# Altium integrated library ON Semi Signal Management Audio Amplifiers.IntLib: 87 symbols (part 1 of 4)
Pins are listed as number, name and electrical type; pins without a type are passive.

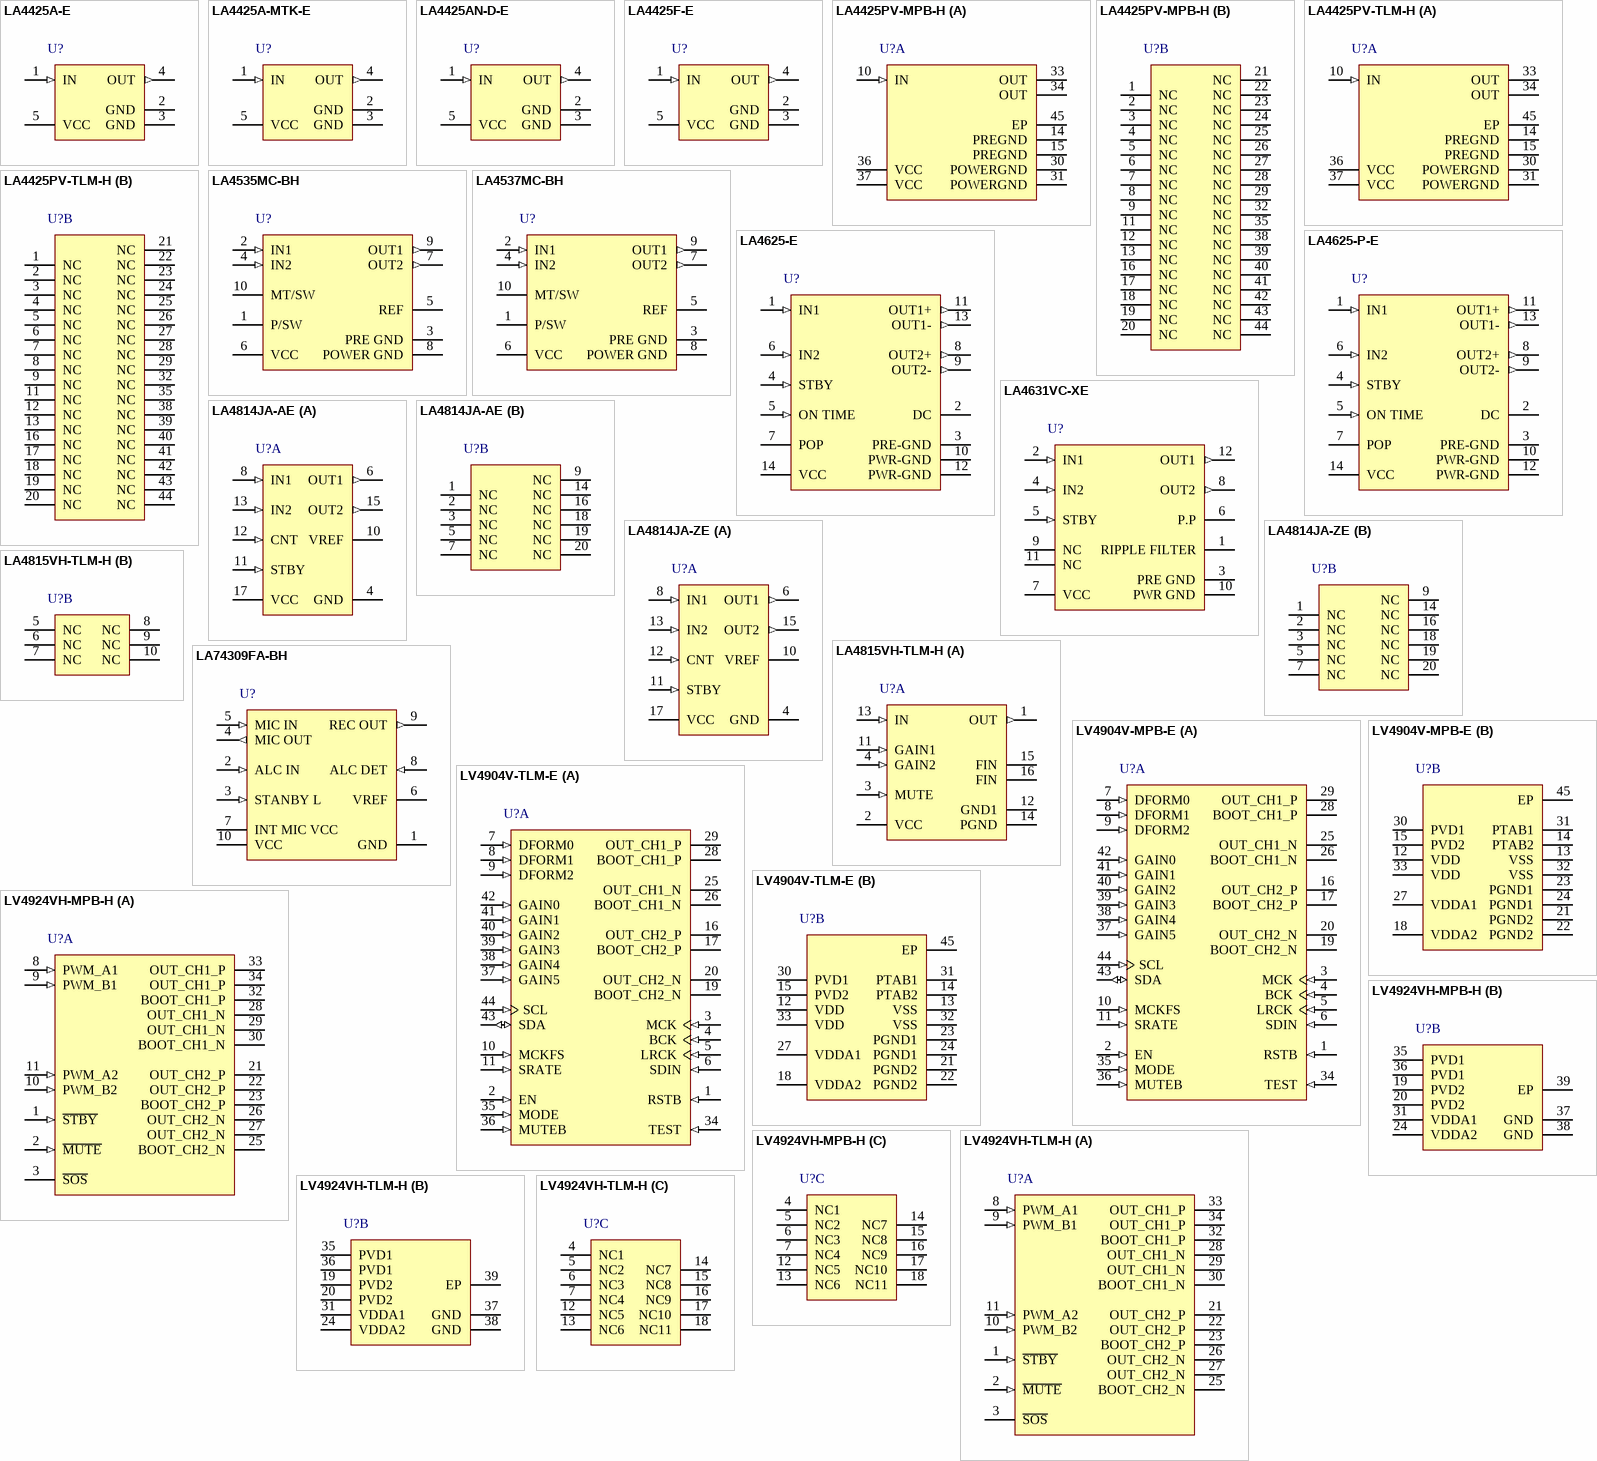
[diagram p0: symbols LA4425A-E to LV4924VH-TLM-H]

## LA4425A-E
designator U?
5 W Power Amplifier with Very Few External Parts for Car Radio and Car Stereo, -30 to 80 degC, 5-Pin SIP, Pb-Free, Bulk Bag; Manufacturer: On Semiconductor; PartNumber: LA4425A-E; DatasheetVersion: Rev. 0; PackageVersion: Rev. O, 12/2011; PackageReference: SIP-5-127AF; PackageDescription: 5-Pin Single-In Line Package, Body 9.5 x 2.7 mm, Pitch 2 mm; Supplier 1: Digi-Key; Supplier Part Number 1: LA4425A-EOS-ND; Supplier 2: Newark; Supplier Part Number 2: 07W6870; Supplier 3: Mouser; Supplier Part Number 3: 863-LA4425A-E; Packing: Bulk Bag; RoHS: TRUE; Mounting Technology: Through Hole; ComponentLink1Description: Manufacturer URL; ComponentLink1URL: http://www.onsemi.com/; ComponentLink2Description: Datasheet; ComponentLink2URL: http://www.onsemi.com/pub_link/Collateral/EN3309-D.PDF; ComponentLink3Description: Package Specification; ComponentLink3URL: http://www.onsemi.com/pub_link/Collateral/127AF.PDF
footprint ONSC-SIP-5-127AF (SIP, 5-Leads, Body 9.5x2.7mm, Pitch 2mm)
pins: 1 IN (in), 2 GND (power), 3 GND (power), 4 OUT (out), 5 VCC (power)

## LA4425A-MTK-E
designator U?
5 W Power Amplifier with Very Few External Parts for Car Radio and Car Stereo, -30 to 80 degC, 5-Pin SIP, Pb-Free, Bulk Bag; Manufacturer: On Semiconductor; PartNumber: LA4425A-MTK-E; DatasheetVersion: Rev. 0; PackageVersion: Rev. O, 12/2011; PackageReference: SIP-5-127AF; PackageDescription: 5-Pin Single-In Line Package, Body 9.5 x 2.7 mm, Pitch 2 mm; Supplier 1: Newark; Supplier Part Number 1: 45W2343; Supplier 2: Mouser; Supplier Part Number 2: 863-LA4425A-MTK-E; Packing: Bulk Bag; RoHS: TRUE; Mounting Technology: Through Hole; ComponentLink1Description: Manufacturer URL; ComponentLink1URL: http://www.onsemi.com/; ComponentLink2Description: Datasheet; ComponentLink2URL: http://www.onsemi.com/pub_link/Collateral/EN3309-D.PDF; ComponentLink3Description: Package Specification; ComponentLink3URL: http://www.onsemi.com/pub_link/Collateral/127AF.PDF
footprint ONSC-SIP-5-127AF (SIP, 5-Leads, Body 9.5x2.7mm, Pitch 2mm)
pins: 1 IN (in), 2 GND (power), 3 GND (power), 4 OUT (out), 5 VCC (power)

## LA4425AN-D-E
designator U?
5 W Power Amplifier with Very Few External Parts for Car Radio and Car Stereo, -30 to 80 degC, 5-Pin SIP, Pb-Free, Fan-Fold; Manufacturer: On Semiconductor; PartNumber: LA4425AN-D-E; DatasheetVersion: Rev. 0; PackageVersion: Rev. O, 12/2011; PackageReference: SIP-5-127AF; PackageDescription: 5-Pin Single-In Line Package, Body 9.5 x 2.7 mm, Pitch 2 mm; Supplier 1: Newark; Supplier Part Number 1: 45W2344; Supplier 2: Mouser; Supplier Part Number 2: 863-LA4425AN-D-E; Packing: Fan-Fold; RoHS: TRUE; Mounting Technology: Through Hole; ComponentLink1Description: Manufacturer URL; ComponentLink1URL: http://www.onsemi.com/; ComponentLink2Description: Datasheet; ComponentLink2URL: http://www.onsemi.com/pub_link/Collateral/EN3309-D.PDF; ComponentLink3Description: Package Specification; ComponentLink3URL: http://www.onsemi.com/pub_link/Collateral/127AF.PDF
footprint ONSC-SIP-5-127AF (SIP, 5-Leads, Body 9.5x2.7mm, Pitch 2mm)
pins: 1 IN (in), 2 GND (power), 3 GND (power), 4 OUT (out), 5 VCC (power)

## LA4425F-E
designator U?
5 W Power Amplifier with Very Few External Parts for Car Radio and Car Stereo, -30 to 80 degC, 5-Pin SIP, Pb-Free, Fan-Fold; Manufacturer: On Semiconductor; PartNumber: LA4425F-E; DatasheetVersion: Rev. 0; PackageVersion: Rev. O, 12/2011; PackageReference: SIP-5-127AF; PackageDescription: 5-Pin Single-In Line Package, Body 9.5 x 2.7 mm, Pitch 2 mm; Supplier 1: Newark; Supplier Part Number 1: 45W2345; Supplier 2: Mouser; Supplier Part Number 2: 863-LA4425F-E; Packing: Fan-Fold; RoHS: TRUE; Mounting Technology: Through Hole; ComponentLink1Description: Manufacturer URL; ComponentLink1URL: http://www.onsemi.com/; ComponentLink2Description: Datasheet; ComponentLink2URL: http://www.onsemi.com/pub_link/Collateral/EN3309-D.PDF; ComponentLink3Description: Package Specification; ComponentLink3URL: http://www.onsemi.com/pub_link/Collateral/127AF.PDF
footprint ONSC-SIP-5-127AF (SIP, 5-Leads, Body 9.5x2.7mm, Pitch 2mm)
pins: 1 IN (in), 2 GND (power), 3 GND (power), 4 OUT (out), 5 VCC (power)

## LA4425PV-MPB-H
designator U?
5 W Power Amplifier with Very Few External Parts for Car Radio and Car Stereo, -40 to 85 degC, 44-Pin SSOP44K, Pb-Free, Fan-Fold; Manufacturer: On Semiconductor; PartNumber: LA4425PV-MPB-H; DatasheetVersion: Rev. 0; PackageVersion: Rev. A, 11/2013; PackageReference: SSOP44K-44-940AF; PackageDescription: 44-Pin Small Outline Package, Body 15 x 5.6 mm, Pitch 0.65 mm; Supplier 1: Digi-Key; Supplier Part Number 1: LA4425PV-MPB-H-ND; Supplier 2: Mouser; Supplier Part Number 2: 863-LA4425PV-MPB-H; Packing: Fan-Fold; RoHS: TRUE; Mounting Technology: Surface Mount; ComponentLink1Description: Manufacturer URL; ComponentLink1URL: http://www.onsemi.com/; ComponentLink2Description: Datasheet; ComponentLink2URL: http://www.onsemi.com/pub_link/Collateral/ENA2011-D.PDF; ComponentLink3Description: Package Specification; ComponentLink3URL: http://www.onsemi.com/pub_link/Collateral/940AF.PDF
footprint ONSC-SSOP44K-44-940AF_V (SOP, 44-Leads, Body 15.1x5.7mm, Pitch 0.65mm, Thermal Pad 3.5x4.7mm)
part A pins: 10 IN (in), 14 PREGND (power), 15 PREGND (power), 30 POWERGND (power), 31 POWERGND (power), 33 OUT, 34 OUT, 36 VCC (power), 37 VCC (power), 45 EP (power)
part B pins: 1 NC, 2 NC, 3 NC, 4 NC, 5 NC, 6 NC, 7 NC, 8 NC, 9 NC, 11 NC, 12 NC, 13 NC, 16 NC, 17 NC, 18 NC, 19 NC, 20 NC, 21 NC, 22 NC, 23 NC, 24 NC, 25 NC, 26 NC, 27 NC, 28 NC, 29 NC, 32 NC, 35 NC, 38 NC, 39 NC, 40 NC, 41 NC, 42 NC, 43 NC, 44 NC

## LA4425PV-TLM-H
designator U?
5 W Power Amplifier with Very Few External Parts for Car Radio and Car Stereo, -40 to 85 degC, 44-Pin SSOP44K, Pb-Free, Tape and Reel; Manufacturer: On Semiconductor; PartNumber: LA4425PV-TLM-H; DatasheetVersion: Rev. 0; PackageVersion: Rev. A, 11/2013; PackageReference: SSOP44K-44-940AF; PackageDescription: 44-Pin Small Outline Package, Body 15 x 5.6 mm, Pitch 0.65 mm; Supplier 1: Digi-Key; Supplier Part Number 1: LA4425PV-TLM-H-ND; Supplier 2: Mouser; Supplier Part Number 2: 863-LA4425PV-TLM-H; Packing: Tape and Reel; RoHS: TRUE; Mounting Technology: Surface Mount; ComponentLink1Description: Manufacturer URL; ComponentLink1URL: http://www.onsemi.com/; ComponentLink2Description: Datasheet; ComponentLink2URL: http://www.onsemi.com/pub_link/Collateral/ENA2011-D.PDF; ComponentLink3Description: Package Specification; ComponentLink3URL: http://www.onsemi.com/pub_link/Collateral/940AF.PDF
footprint ONSC-SSOP44K-44-940AF_V (SOP, 44-Leads, Body 15.1x5.7mm, Pitch 0.65mm, Thermal Pad 3.5x4.7mm)
part A pins: 10 IN (in), 14 PREGND (power), 15 PREGND (power), 30 POWERGND (power), 31 POWERGND (power), 33 OUT, 34 OUT, 36 VCC (power), 37 VCC (power), 45 EP (power)
part B pins: 1 NC, 2 NC, 3 NC, 4 NC, 5 NC, 6 NC, 7 NC, 8 NC, 9 NC, 11 NC, 12 NC, 13 NC, 16 NC, 17 NC, 18 NC, 19 NC, 20 NC, 21 NC, 22 NC, 23 NC, 24 NC, 25 NC, 26 NC, 27 NC, 28 NC, 29 NC, 32 NC, 35 NC, 38 NC, 39 NC, 40 NC, 41 NC, 42 NC, 43 NC, 44 NC

## LA4535MC-BH
designator U?
Power Amplifier for 1.5 V Headphone Stereo, -20 to 75 degC, 10-Pin SOIC, Pb-Free, Tape and Reel; Manufacturer: On Semiconductor; PartNumber: LA4535MC-BH; DatasheetVersion: Rev. 1; PackageReference: SOIC-10-3426; PackageDescription: 10-Pin Small Outline Package, Body 5 x 4.4 mm, Pitch 1 mm; Supplier 1: Digi-Key; Supplier Part Number 1: LA4535MC-BH-ND; Supplier 2: Mouser; Supplier Part Number 2: 863-LA4535MC-BH; Packing: Tape and Reel; RoHS: TRUE; Mounting Technology: Surface Mount; ComponentLink1Description: Manufacturer URL; ComponentLink1URL: http://www.onsemi.com/; ComponentLink2Description: Datasheet; ComponentLink2URL: http://www.onsemi.com/pub_link/Collateral/ENA2032-D.PDF; ComponentLink3Description: Package Specification; ComponentLink3URL: http://www.onsemi.com/pub_link/Collateral/ENA2032-D.PDF
footprint ONSC-SOIC-10-3426_N (SOP, 10-Leads, Body 5x4.4mm, Pitch 1mm, IPC Medium Density)
footprint ONSC-SOIC-10-3426_L (SOP, 10-Leads, Body 5x4.4mm, Pitch 1mm, IPC High Density)
footprint ONSC-SOIC-10-3426_M (SOP, 10-Leads, Body 5x4.4mm, Pitch 1mm, IPC Low Density)
pins: 1 P/SW, 2 IN1 (in), 3 PRE GND (power), 4 IN2 (in), 5 REF, 6 VCC (power), 7 OUT2 (out), 8 POWER GND (power), 9 OUT1 (out), 10 MT/SW

## LA4537MC-BH
designator U?
Power Amplifier for 1.5 V Headphone Stereo, -20 to 75 degC, 10-Pin SOIC, Pb-Free, Tape and Reel; Manufacturer: On Semiconductor; PartNumber: LA4537MC-BH; DatasheetVersion: Rev. 1; PackageReference: SOIC-10-3426; PackageDescription: 10-Pin Small Outline Package, Body 5 x 4.4 mm, Pitch 1 mm; Supplier 1: Digi-Key; Supplier Part Number 1: LA4537MC-BH-ND; Supplier 2: Newark; Supplier Part Number 2: 52T7889; Supplier 3: Mouser; Supplier Part Number 3: 863-LA4537MC-BH; Packing: Tape and Reel; RoHS: TRUE; Mounting Technology: Surface Mount; ComponentLink1Description: Manufacturer URL; ComponentLink1URL: http://www.onsemi.com/; ComponentLink2Description: Datasheet; ComponentLink2URL: http://www.onsemi.com/pub_link/Collateral/ENA2033-D.PDF; ComponentLink3Description: Package Specification; ComponentLink3URL: http://www.onsemi.com/pub_link/Collateral/ENA2032-D.PDF
footprint ONSC-SOIC-10-3426_N (SOP, 10-Leads, Body 5x4.4mm, Pitch 1mm, IPC Medium Density)
footprint ONSC-SOIC-10-3426_L (SOP, 10-Leads, Body 5x4.4mm, Pitch 1mm, IPC High Density)
footprint ONSC-SOIC-10-3426_M (SOP, 10-Leads, Body 5x4.4mm, Pitch 1mm, IPC Low Density)
pins: 1 P/SW, 2 IN1 (in), 3 PRE GND (power), 4 IN2 (in), 5 REF, 6 VCC (power), 7 OUT2 (out), 8 POWER GND (power), 9 OUT1 (out), 10 MT/SW

## LA4625-E
designator U?
2-Channel 13.5 W BTL Audio Power Amplifier, -20 to 85 degC, 14-Pin SIP, Pb-Free, Fan-Fold; Manufacturer: On Semiconductor; PartNumber: LA4625-E; DatasheetVersion: Rev. 0; PackageVersion: Rev. A, 10/2013; PackageReference: SIP-14-127AR; PackageDescription: 14-Pin Single-In Line Package, Body 26.8 x 4 mm, Pitch 1.78 mm; Supplier 1: Digi-Key; Supplier Part Number 1: LA4625-E-ND; Supplier 2: Newark; Supplier Part Number 2: 52T7890; Supplier 3: Mouser; Supplier Part Number 3: 863-LA4625-E; Packing: Fan-Fold; RoHS: TRUE; Mounting Technology: Through Hole; ComponentLink1Description: Manufacturer URL; ComponentLink1URL: http://www.onsemi.com/; ComponentLink2Description: Datasheet; ComponentLink2URL: http://www.onsemi.cn/pub_link/Collateral/LA4625-D.PDF; ComponentLink3Description: Package Specification; ComponentLink3URL: http://www.onsemi.com/pub_link/Collateral/127AR.PDF
footprint ONSC-SIP-14-127AR (SIP, 14-Leads, Body 26.8x4mm, Pitch 1.78mm)
pins: 1 IN1 (in), 2 DC, 3 PRE-GND (power), 4 STBY (in), 5 ON TIME (in), 6 IN2 (in), 7 POP, 8 OUT2+ (out), 9 OUT2- (out), 10 PWR-GND (power), 11 OUT1+ (out), 12 PWR-GND (power), 13 OUT1- (out), 14 VCC (power)

## LA4625-P-E
designator U?
2-Channel 13.5 W BTL Audio Power Amplifier, -20 to 85 degC, 14-Pin SIP, Pb-Free, Fan-Fold; Manufacturer: On Semiconductor; PartNumber: LA4625-P-E; DatasheetVersion: Rev. 0; PackageVersion: Rev. A, 10/2013; PackageReference: SIP-14-127AR; PackageDescription: 14-Pin Single-In Line Package, Body 26.8 x 4 mm, Pitch 1.78 mm; Supplier 1: Newark; Supplier Part Number 1: 45W2356; Supplier 2: Mouser; Supplier Part Number 2: 863-LA4625-P-E; Packing: Fan-Fold; RoHS: TRUE; Mounting Technology: Through Hole; ComponentLink1Description: Manufacturer URL; ComponentLink1URL: http://www.onsemi.com/; ComponentLink2Description: Datasheet; ComponentLink2URL: http://www.onsemi.cn/pub_link/Collateral/LA4625-D.PDF; ComponentLink3Description: Package Specification; ComponentLink3URL: http://www.onsemi.com/pub_link/Collateral/127AR.PDF
footprint ONSC-SIP-14-127AR (SIP, 14-Leads, Body 26.8x4mm, Pitch 1.78mm)
pins: 1 IN1 (in), 2 DC, 3 PRE-GND (power), 4 STBY (in), 5 ON TIME (in), 6 IN2 (in), 7 POP, 8 OUT2+ (out), 9 OUT2- (out), 10 PWR-GND (power), 11 OUT1+ (out), 12 PWR-GND (power), 13 OUT1- (out), 14 VCC (power)

## LA4631VC-XE
designator U?
2-Channel SE AF Power Amplifier for Home Audio Use , -20 to 75 degC, 12-Pin SIP, Pb-Free, Fan-Fold; Manufacturer: On Semiconductor; PartNumber: LA4631VC-XE; DatasheetVersion: Rev. 0; PackageVersion: Rev. O, 12/2011; PackageReference: SIP-12-127AM; PackageDescription: 12-Pin Single-In Line Package, Body 26.8 x 4 mm, Pitch 2 mm; Supplier 1: Newark; Supplier Part Number 1: 45W2362; Supplier 2: Mouser; Supplier Part Number 2: 863-LA4631VC-XE; Packing: Fan-Fold; RoHS: TRUE; Mounting Technology: Through Hole; ComponentLink1Description: Manufacturer URL; ComponentLink1URL: http://www.onsemi.com/; ComponentLink2Description: Datasheet; ComponentLink2URL: http://www.onsemi.cn/pub_link/Collateral/ENA2051-D.PDF; ComponentLink3Description: Package Specification; ComponentLink3URL: http://www.onsemi.cn/pub_link/Collateral/127AM.PDF
footprint ONSC-SIP-12-127AM (SIP, 12-Leads, Body 26.8x4mm, Pitch 2mm)
pins: 1 RIPPLE FILTER, 2 IN1 (in), 3 PRE GND (power), 4 IN2 (in), 5 STBY (in), 6 P.P, 7 VCC (power), 8 OUT2 (out), 9 NC, 10 PWR GND (power), 11 NC, 12 OUT1 (out)

## LA4814JA-AE
designator U?
2-Channel Power Amplifier, -40 to 85 degC, 20-Pin SSOP, Pb-Free, Tape and Reel; Manufacturer: On Semiconductor; PartNumber: LA4814JA-AE; DatasheetVersion: Rev. 0; PackageReference: SSOP-20; PackageDescription: 20-Pin Small Outline Package, Body 6.5 x 4.4 mm, Pitch 0.65 mm; Supplier 1: Mouser; Supplier Part Number 1: 863-LA4814JA-AE; Packing: Tape and Reel; RoHS: TRUE; Mounting Technology: Surface Mount; ComponentLink1Description: Manufacturer URL; ComponentLink1URL: http://www.onsemi.com/; ComponentLink2Description: Datasheet; ComponentLink2URL: http://www.onsemi.cn/pub_link/Collateral/ENA2040-D.PDF; ComponentLink3Description: Package Specification; ComponentLink3URL: http://www.onsemi.cn/pub_link/Collateral/ENA2040-D.PDF
footprint ONSC-SSOP-20_N (SOP, 20-Leads, Body 6.5x4.4mm, Pitch 0.65mm, IPC Medium Density)
footprint ONSC-SSOP-20_L (SOP, 20-Leads, Body 6.5x4.4mm, Pitch 0.65mm, IPC High Density)
footprint ONSC-SSOP-20_M (SOP, 20-Leads, Body 6.5x4.4mm, Pitch 0.65mm, IPC Low Density)
part A pins: 4 GND (power) "Ground pin", 6 OUT1 (out) "Power amplifier output pin.", 8 IN1 (in) "Input pin.", 10 VREF "Ripple filter pin", 11 STBY (in) "Standby pin,Standby mode at 0V to 0.3V,Operation mode at 1.6V to VCC", 12 CNT (in) "Second amplifier stop control pin,Second amplifier operation at 0V to 0.3V, Second amplifier stop at 1.6V to VCC.", 13 IN2 (in) "Input pin.", 15 OUT2 (out) "Power amplifier output pin.", 17 VCC (power) "Power supply pin"
part B pins: 1 NC "No Connect", 2 NC "No Connect", 3 NC "No Connect", 5 NC "No Connect", 7 NC "No Connect", 9 NC "No Connect", 14 NC "No Connect", 16 NC "No Connect", 18 NC "No Connect", 19 NC "No Connect", 20 NC "No Connect"

## LA4814JA-ZE
designator U?
2-Channel Power Amplifier, -40 to 85 degC, 20-Pin SSOP, Pb-Free, Fan-Fold; Manufacturer: On Semiconductor; PartNumber: LA4814JA-ZE; DatasheetVersion: Rev. 0; PackageReference: SSOP-20; PackageDescription: 20-Pin Small Outline Package, Body 6.5 x 4.4 mm, Pitch 0.65 mm; Supplier 1: Mouser; Supplier Part Number 1: 863-LA4814JA-ZE; Packing: Fan-Fold; RoHS: TRUE; Mounting Technology: Surface Mount; ComponentLink1Description: Manufacturer URL; ComponentLink1URL: http://www.onsemi.com/; ComponentLink2Description: Datasheet; ComponentLink2URL: http://www.onsemi.cn/pub_link/Collateral/ENA2040-D.PDF; ComponentLink3Description: Package Specification; ComponentLink3URL: http://www.onsemi.cn/pub_link/Collateral/ENA2040-D.PDF
footprint ONSC-SSOP-20_N (SOP, 20-Leads, Body 6.5x4.4mm, Pitch 0.65mm, IPC Medium Density)
footprint ONSC-SSOP-20_L (SOP, 20-Leads, Body 6.5x4.4mm, Pitch 0.65mm, IPC High Density)
footprint ONSC-SSOP-20_M (SOP, 20-Leads, Body 6.5x4.4mm, Pitch 0.65mm, IPC Low Density)
part A pins: 4 GND (power) "Ground pin", 6 OUT1 (out) "Power amplifier output pin.", 8 IN1 (in) "Input pin.", 10 VREF "Ripple filter pin", 11 STBY (in) "Standby pin,Standby mode at 0V to 0.3V,Operation mode at 1.6V to VCC", 12 CNT (in) "Second amplifier stop control pin,Second amplifier operation at 0V to 0.3V, Second amplifier stop at 1.6V to VCC.", 13 IN2 (in) "Input pin.", 15 OUT2 (out) "Power amplifier output pin.", 17 VCC (power) "Power supply pin"
part B pins: 1 NC "No Connect", 2 NC "No Connect", 3 NC "No Connect", 5 NC "No Connect", 7 NC "No Connect", 9 NC "No Connect", 14 NC "No Connect", 16 NC "No Connect", 18 NC "No Connect", 19 NC "No Connect", 20 NC "No Connect"

## LA4815VH-TLM-H
designator U?
Monaural Power Amplifier, -30 to 75 degC, 14-Pin HSSOP, Pb-Free, Tape and Reel; Manufacturer: On Semiconductor; PartNumber: LA4815VH-TLM-H; DatasheetVersion: Rev. 1; PackageReference: HSSOP-14; PackageDescription: 14-Pin Small Outline Package, Body 6.5 x 4.4 mm, Pitch 0.65 mm; Supplier 1: Digi-Key; Supplier Part Number 1: LA4815VH-TLM-H-ND; Supplier 2: Mouser; Supplier Part Number 2: 863-LA4815VH-TLM-H; Packing: Tape and Reel; RoHS: TRUE; Mounting Technology: Surface Mount; ComponentLink1Description: Manufacturer URL; ComponentLink1URL: http://www.onsemi.com/; ComponentLink2Description: Datasheet; ComponentLink2URL: http://www.onsemi.cn/pub_link/Collateral/LA4815VH-D.PDF; ComponentLink3Description: Package Specification; ComponentLink3URL: http://www.onsemi.cn/pub_link/Collateral/LA4815VH-D.PDF
footprint ONSC-HSSOP-14_N (SOP, 14-Leads, Body 6.5x4.4mm, Pitch 0.65mm, IPC Medium Density)
footprint ONSC-HSSOP-14_L (SOP, 14-Leads, Body 6.5x4.4mm, Pitch 0.65mm, IPC High Density)
footprint ONSC-HSSOP-14_M (SOP, 14-Leads, Body 6.5x4.4mm, Pitch 0.65mm, IPC Low Density)
part A pins: 1 OUT (out) "Power amplifier output pin.", 2 VCC (power) "Power supply pin.", 3 MUTE (in) "Mute control pin.", 4 GAIN2 (in) "Gain switching pin.", 11 GAIN1 (in) "Gain switching pin.", 12 GND1 (power) "Preamplifier system ground pin.", 13 IN (in) "Input pin.", 14 PGND (power) "Power amplifier ground pin.", 15 FIN (power), 16 FIN (power)
part B pins: 5 NC, 6 NC, 7 NC, 8 NC, 9 NC, 10 NC

## LA74309FA-BH
designator U?
Microphone Amplifier for Digital Still Camera, -20 to 85 degC, 10-Pin MICRO, Pb-Free, Tape and Reel; Manufacturer: On Semiconductor; PartNumber: LA74309FA-BH; DatasheetVersion: Rev. 0; PackageReference: MICRO-10; PackageDescription: 10-Pin Micro Small Outline Package, Body 3 x 3 mm, Pitch 0.5 mm; Supplier 1: Mouser; Supplier Part Number 1: 863-LA74309FA-BH; Packing: Tape and Reel; RoHS: TRUE; Mounting Technology: Surface Mount; ComponentLink1Description: Manufacturer URL; ComponentLink1URL: http://www.onsemi.com/; ComponentLink2Description: Datasheet; ComponentLink2URL: http://www.onsemi.cn/pub_link/Collateral/ENA2050-D.PDF; ComponentLink3Description: Package Specification; ComponentLink3URL: http://www.onsemi.cn/pub_link/Collateral/ENA2050-D.PDF
footprint ONSC-MICRO-10_N (SOP, 10-Leads, Body 3x3mm, Pitch 0.5mm, IPC Medium Density)
footprint ONSC-MICRO-10_L (SOP, 10-Leads, Body 3x3mm, Pitch 0.5mm, IPC High Density)
footprint ONSC-MICRO-10_M (SOP, 10-Leads, Body 3x3mm, Pitch 0.5mm, IPC Low Density)
pins: 1 GND (power), 2 ALC IN (in) "ALC input", 3 STANBY L (in) "STANDBY CTL", 4 MIC OUT (out) "MIC output", 5 MIC IN (in) "MIC input", 6 VREF "Ripple removal for VREF", 7 INT MIC VCC (power) "Internal MIC power supply", 8 ALC DET (in), 9 REC OUT (out) "REC output", 10 VCC (power)

## LV4904V-MPB-E
designator U?
Digital Input Class-D Power Amplifier, -30 to 70 degC, 44-Pin SSOP44J, Pb-Free, Fan-Fold; Manufacturer: On Semiconductor; PartNumber: LV4904V-MPB-E; Efficiency Typ (%): 85; DatasheetVersion: Rev. 0; PackageReference: SSOP44J-44; PackageDescription: 44-Pin Small Outline Package, Body 15 x 5.6 mm, Pitch 0.65 mm; Supplier 1: Newark; Supplier Part Number 1: 45W3284; Supplier 2: Mouser; Supplier Part Number 2: 863-LV4904V-MPB-E; Packing: Fan-Fold; RoHS: TRUE; Mounting Technology: Surface Mount; ComponentLink1Description: Manufacturer URL; ComponentLink1URL: http://www.onsemi.com/; ComponentLink2Description: Datasheet; ComponentLink2URL: http://www.onsemi.com/pub_link/Collateral/ENA1963-D.PDF; ComponentLink3Description: Package Specification; ComponentLink3URL: http://www.onsemi.com/pub_link/Collateral/ENA1963-D.PDF
footprint ONSC-SSOP44J-44_N (SOP, 44-Leads, Body 15x5.6mm, Pitch 0.65mm, Thermal Pad 7.8x3.6mm, IPC Medium Density)
footprint ONSC-SSOP44J-44_L (SOP, 44-Leads, Body 15x5.6mm, Pitch 0.65mm, Thermal Pad 7.8x3.6mm, IPC High Density)
footprint ONSC-SSOP44J-44_M (SOP, 44-Leads, Body 15x5.6mm, Pitch 0.65mm, Thermal Pad 7.8x3.6mm, IPC Low Density)
part A pins: 1 RSTB (in) "Reset input (low active)", 2 EN (in) "System enable input", 3 MCK (in) "Master clock input", 4 BCK (in) "3-wire serial bit clock input", 5 LRCK (in) "3-wire serial LR clock input", 6 SDIN (in) "3-wire serial data input", 7 DFORM0 (in) "Input format setting input 0", 8 DFORM1 (in) "Input format setting input 1", 9 DFORM2 (in) "Input format setting input 2", 10 MCKFS (in) "Master clock (MCK) rate setting pin", 11 SRATE (in) "Input data sampling rate setting pin", 16 OUT_CH2_P (hiz) "Output pin, channel 2 (Rch) +", 17 BOOT_CH2_P "Bootstrap I/O pin, channel 2 (Rch) +", 19 BOOT_CH2_N "Bootstrap I/O pin, channel 2 (Rch) -", 20 OUT_CH2_N (hiz) "Output pin, channel 2 negative", 25 OUT_CH1_N (hiz) "Output pin, channel 1 (Lch) -", 26 BOOT_CH1_N "Bootstrap I/O pin, channel 1 (Lch) -", 28 BOOT_CH1_P "Bootstrap I/O pin, channel 1 (Lch) +", 29 OUT_CH1_P (hiz) "Output pin, channel 1 (Lch) +", 34 TEST (in) "Test mode setting pin (fixed at a low level)", 35 MODE (in) "Output mode setting pin", 36 MUTEB (in) "Mute setting input (low active)", 37 GAIN5 (in) "Gain setting input 5", 38 GAIN4 (in) "Gain setting input 4", 39 GAIN3 (in) "Gain setting input 3", 40 GAIN2 (in) "Gain setting input 2", 41 GAIN1 (in) "Gain setting input 1", 42 GAIN0 (in) "Gain setting input 0", 43 SDA (io) "[I2C I/F] data", 44 SCL (in) "[I2C I/F] bit clock"
part B pins: 12 VDD (power) "Digital power supply (3.3V)", 13 VSS (power) "Small-signal ground (GND)", 14 PTAB2 (power) "Substrate ground", 15 PVD2 (power) "Power cell power supply", 18 VDDA2 (power) "De-coupling capacitor connection pin for internal power supply", 21 PGND2 (power) "Channel 2 power ground", 22 PGND2 (power) "Channel 2 power ground", 23 PGND1 (power) "Channel 1 power ground", 24 PGND1 (power) "Channel 1 power ground", 27 VDDA1 (power) "De-coupling capacitor connection pin for internal power supply", 30 PVD1 (power) "Power cell power supply", 31 PTAB1 (power) "Substrate ground", 32 VSS (power) "Small-signal ground (GND)", 33 VDD (power) "Digital power supply (3.3V)", 45 EP

## LV4904V-TLM-E
designator U?
Digital Input Class-D Power Amplifier, -30 to 70 degC, 44-Pin SSOP44J, Pb-Free, Tape and Reel; Manufacturer: On Semiconductor; PartNumber: LV4904V-TLM-E; Efficiency Typ (%): 85; DatasheetVersion: Rev. 0; PackageReference: SSOP44J-44; PackageDescription: 44-Pin Small Outline Package, Body 15 x 5.6 mm, Pitch 0.65 mm; Supplier 1: Digi-Key; Supplier Part Number 1: LV4904V-TLM-E-ND; Supplier 2: Mouser; Supplier Part Number 2: 863-LV4904V-TLM-E; Packing: Tape and Reel; RoHS: TRUE; Mounting Technology: Surface Mount; ComponentLink1Description: Manufacturer URL; ComponentLink1URL: http://www.onsemi.com/; ComponentLink2Description: Datasheet; ComponentLink2URL: http://www.onsemi.com/pub_link/Collateral/ENA1963-D.PDF; ComponentLink3Description: Package Specification; ComponentLink3URL: http://www.onsemi.com/pub_link/Collateral/ENA1963-D.PDF
footprint ONSC-SSOP44J-44_N (SOP, 44-Leads, Body 15x5.6mm, Pitch 0.65mm, Thermal Pad 7.8x3.6mm, IPC Medium Density)
footprint ONSC-SSOP44J-44_L (SOP, 44-Leads, Body 15x5.6mm, Pitch 0.65mm, Thermal Pad 7.8x3.6mm, IPC High Density)
footprint ONSC-SSOP44J-44_M (SOP, 44-Leads, Body 15x5.6mm, Pitch 0.65mm, Thermal Pad 7.8x3.6mm, IPC Low Density)
part A pins: 1 RSTB (in) "Reset input (low active)", 2 EN (in) "System enable input", 3 MCK (in) "Master clock input", 4 BCK (in) "3-wire serial bit clock input", 5 LRCK (in) "3-wire serial LR clock input", 6 SDIN (in) "3-wire serial data input", 7 DFORM0 (in) "Input format setting input 0", 8 DFORM1 (in) "Input format setting input 1", 9 DFORM2 (in) "Input format setting input 2", 10 MCKFS (in) "Master clock (MCK) rate setting pin", 11 SRATE (in) "Input data sampling rate setting pin", 16 OUT_CH2_P (hiz) "Output pin, channel 2 (Rch) +", 17 BOOT_CH2_P "Bootstrap I/O pin, channel 2 (Rch) +", 19 BOOT_CH2_N "Bootstrap I/O pin, channel 2 (Rch) -", 20 OUT_CH2_N (hiz) "Output pin, channel 2 negative", 25 OUT_CH1_N (hiz) "Output pin, channel 1 (Lch) -", 26 BOOT_CH1_N "Bootstrap I/O pin, channel 1 (Lch) -", 28 BOOT_CH1_P "Bootstrap I/O pin, channel 1 (Lch) +", 29 OUT_CH1_P (hiz) "Output pin, channel 1 (Lch) +", 34 TEST (in) "Test mode setting pin (fixed at a low level)", 35 MODE (in) "Output mode setting pin", 36 MUTEB (in) "Mute setting input (low active)", 37 GAIN5 (in) "Gain setting input 5", 38 GAIN4 (in) "Gain setting input 4", 39 GAIN3 (in) "Gain setting input 3", 40 GAIN2 (in) "Gain setting input 2", 41 GAIN1 (in) "Gain setting input 1", 42 GAIN0 (in) "Gain setting input 0", 43 SDA (io) "[I2C I/F] data", 44 SCL (in) "[I2C I/F] bit clock"
part B pins: 12 VDD (power) "Digital power supply (3.3V)", 13 VSS (power) "Small-signal ground (GND)", 14 PTAB2 (power) "Substrate ground", 15 PVD2 (power) "Power cell power supply", 18 VDDA2 (power) "De-coupling capacitor connection pin for internal power supply", 21 PGND2 (power) "Channel 2 power ground", 22 PGND2 (power) "Channel 2 power ground", 23 PGND1 (power) "Channel 1 power ground", 24 PGND1 (power) "Channel 1 power ground", 27 VDDA1 (power) "De-coupling capacitor connection pin for internal power supply", 30 PVD1 (power) "Power cell power supply", 31 PTAB1 (power) "Substrate ground", 32 VSS (power) "Small-signal ground (GND)", 33 VDD (power) "Digital power supply (3.3V)", 45 EP

## LV4924VH-MPB-H
designator U?
Class-D Audio Power Amplifier Power Cell BTL 10 W x 2 ch, -25 to 75 degC, 36-Pin HSSOP, Pb-Free, Fan-Fold; Manufacturer: On Semiconductor; PartNumber: LV4924VH-MPB-H; Efficiency Typ (%): 89; DatasheetVersion: Rev. 0; PackageReference: HSSOP-36; PackageDescription: 36-Pin Small Outline Package, Body 15 x 5.6 mm, Pitch 0.65 mm; Supplier 1: Digi-Key; Supplier Part Number 1: LV4924VH-MPB-H-ND; Supplier 2: Mouser; Supplier Part Number 2: 863-LV4924VH-MPB-H; Packing: Fan-Fold; RoHS: TRUE; Mounting Technology: Surface Mount; ComponentLink1Description: Manufacturer URL; ComponentLink1URL: http://www.onsemi.com/; ComponentLink2Description: Datasheet; ComponentLink2URL: http://www.onsemi.com/pub_link/Collateral/ENA1997-D.PDF; ComponentLink3Description: Package Specification; ComponentLink3URL: http://www.onsemi.com/pub_link/Collateral/ENA1997-D.PDF
footprint ONSC-HSSOP-36_N (SOP, 36-Leads, Body 15x5.6mm, Pitch 0.65mm, IPC Medium Density)
footprint ONSC-HSSOP-36_L (SOP, 36-Leads, Body 15x5.6mm, Pitch 0.65mm, IPC High Density)
footprint ONSC-HSSOP-36_M (SOP, 36-Leads, Body 15x5.6mm, Pitch 0.65mm, IPC Low Density)
part A pins: 1 ~{STBY} (in) "Standby mode control", 2 ~{MUTE} (in) "Muting control", 3 ~{SOS} (oc) "Internal protection circuit detection output (OR output of the thermak detection, over-current, voltage drop protection, offset detection cicrcuit) of an NPN open collector output type", 8 PWM_A1 (in) "PWM input(plus input) of OUT_CH1_P", 9 PWM_B1 (in) "PWM input(negative input) of OUT_CH1_N", 10 PWM_B2 (in) "PWM input(negative input) of OUT_CH2_N", 11 PWM_A2 (in) "PWM input(plus input) of OUT_CH2_P", 21 OUT_CH2_P (hiz) "Output pin, Channel 2 plus", 22 OUT_CH2_P (hiz) "Output pin, Channel 2 plus", 23 BOOT_CH2_P "Bootstrap I/O pin, channel 2 plus", 25 BOOT_CH2_N "Bootstrap I/O pin, channel 2 minus", 26 OUT_CH2_N (hiz) "Output pin, Channel 2 minus", 27 OUT_CH2_N (hiz) "Output pin, Channel 2 minus", 28 OUT_CH1_N (hiz) "Output pin, Channel 1 minus", 29 OUT_CH1_N (hiz) "Output pin, Channel 1 minus", 30 BOOT_CH1_N "Bootstrap I/O pin, channel 1 minus", 32 BOOT_CH1_P "Bootstrap I/O pin, channel 1 plus", 33 OUT_CH1_P (hiz) "Output pin, Channel 1 plus", 34 OUT_CH1_P (hiz) "Output pin, Channel 1 plus"
part B pins: 19 PVD2 (power) "Power pin", 20 PVD2 (power) "Power pin", 24 VDDA2 (power) "Internal power supply decoupling capacitor connection", 31 VDDA1 (power) "Internal power supply decoupling capacitor connection", 35 PVD1 (power) "Power pin", 36 PVD1 (power) "Power pin", 37 GND (power) "ground", 38 GND (power) "ground", 39 EP
part C pins: 4 NC1 "Non connection", 5 NC2 "Non connection", 6 NC3 "Non connection", 7 NC4 "Non connection", 12 NC5 "Non connection", 13 NC6 "Non connection", 14 NC7 "Non connection", 15 NC8 "Non connection", 16 NC9 "Non connection", 17 NC10 "Non connection", 18 NC11 "Non connection"

## LV4924VH-TLM-H
designator U?
Class-D Audio Power Amplifier Power Cell BTL 10 W x 2 ch, -25 to 75 degC, 36-Pin HSSOP, Pb-Free, Tape and Reel; Manufacturer: On Semiconductor; PartNumber: LV4924VH-TLM-H; Efficiency Typ (%): 89; DatasheetVersion: Rev. 0; PackageReference: HSSOP-36; PackageDescription: 36-Pin Small Outline Package, Body 15 x 5.6 mm, Pitch 0.65 mm; Supplier 1: Digi-Key; Supplier Part Number 1: LV4924VH-TLM-H-ND; Supplier 2: Mouser; Supplier Part Number 2: 863-LV4924VH-TLM-H; Packing: Tape and Reel; RoHS: TRUE; Mounting Technology: Surface Mount; ComponentLink1Description: Manufacturer URL; ComponentLink1URL: http://www.onsemi.com/; ComponentLink2Description: Datasheet; ComponentLink2URL: http://www.onsemi.com/pub_link/Collateral/ENA1997-D.PDF; ComponentLink3Description: Package Specification; ComponentLink3URL: http://www.onsemi.com/pub_link/Collateral/ENA1997-D.PDF
footprint ONSC-HSSOP-36_N (SOP, 36-Leads, Body 15x5.6mm, Pitch 0.65mm, IPC Medium Density)
footprint ONSC-HSSOP-36_L (SOP, 36-Leads, Body 15x5.6mm, Pitch 0.65mm, IPC High Density)
footprint ONSC-HSSOP-36_M (SOP, 36-Leads, Body 15x5.6mm, Pitch 0.65mm, IPC Low Density)
part A pins: 1 ~{STBY} (in) "Standby mode control", 2 ~{MUTE} (in) "Muting control", 3 ~{SOS} (oc) "Internal protection circuit detection output (OR output of the thermak detection, over-current, voltage drop protection, offset detection cicrcuit) of an NPN open collector output type", 8 PWM_A1 (in) "PWM input(plus input) of OUT_CH1_P", 9 PWM_B1 (in) "PWM input(negative input) of OUT_CH1_N", 10 PWM_B2 (in) "PWM input(negative input) of OUT_CH2_N", 11 PWM_A2 (in) "PWM input(plus input) of OUT_CH2_P", 21 OUT_CH2_P (hiz) "Output pin, Channel 2 plus", 22 OUT_CH2_P (hiz) "Output pin, Channel 2 plus", 23 BOOT_CH2_P "Bootstrap I/O pin, channel 2 plus", 25 BOOT_CH2_N "Bootstrap I/O pin, channel 2 minus", 26 OUT_CH2_N (hiz) "Output pin, Channel 2 minus", 27 OUT_CH2_N (hiz) "Output pin, Channel 2 minus", 28 OUT_CH1_N (hiz) "Output pin, Channel 1 minus", 29 OUT_CH1_N (hiz) "Output pin, Channel 1 minus", 30 BOOT_CH1_N "Bootstrap I/O pin, channel 1 minus", 32 BOOT_CH1_P "Bootstrap I/O pin, channel 1 plus", 33 OUT_CH1_P (hiz) "Output pin, Channel 1 plus", 34 OUT_CH1_P (hiz) "Output pin, Channel 1 plus"
part B pins: 19 PVD2 (power) "Power pin", 20 PVD2 (power) "Power pin", 24 VDDA2 (power) "Internal power supply decoupling capacitor connection", 31 VDDA1 (power) "Internal power supply decoupling capacitor connection", 35 PVD1 (power) "Power pin", 36 PVD1 (power) "Power pin", 37 GND (power) "ground", 38 GND (power) "ground", 39 EP
part C pins: 4 NC1 "Non connection", 5 NC2 "Non connection", 6 NC3 "Non connection", 7 NC4 "Non connection", 12 NC5 "Non connection", 13 NC6 "Non connection", 14 NC7 "Non connection", 15 NC8 "Non connection", 16 NC9 "Non connection", 17 NC10 "Non connection", 18 NC11 "Non connection"

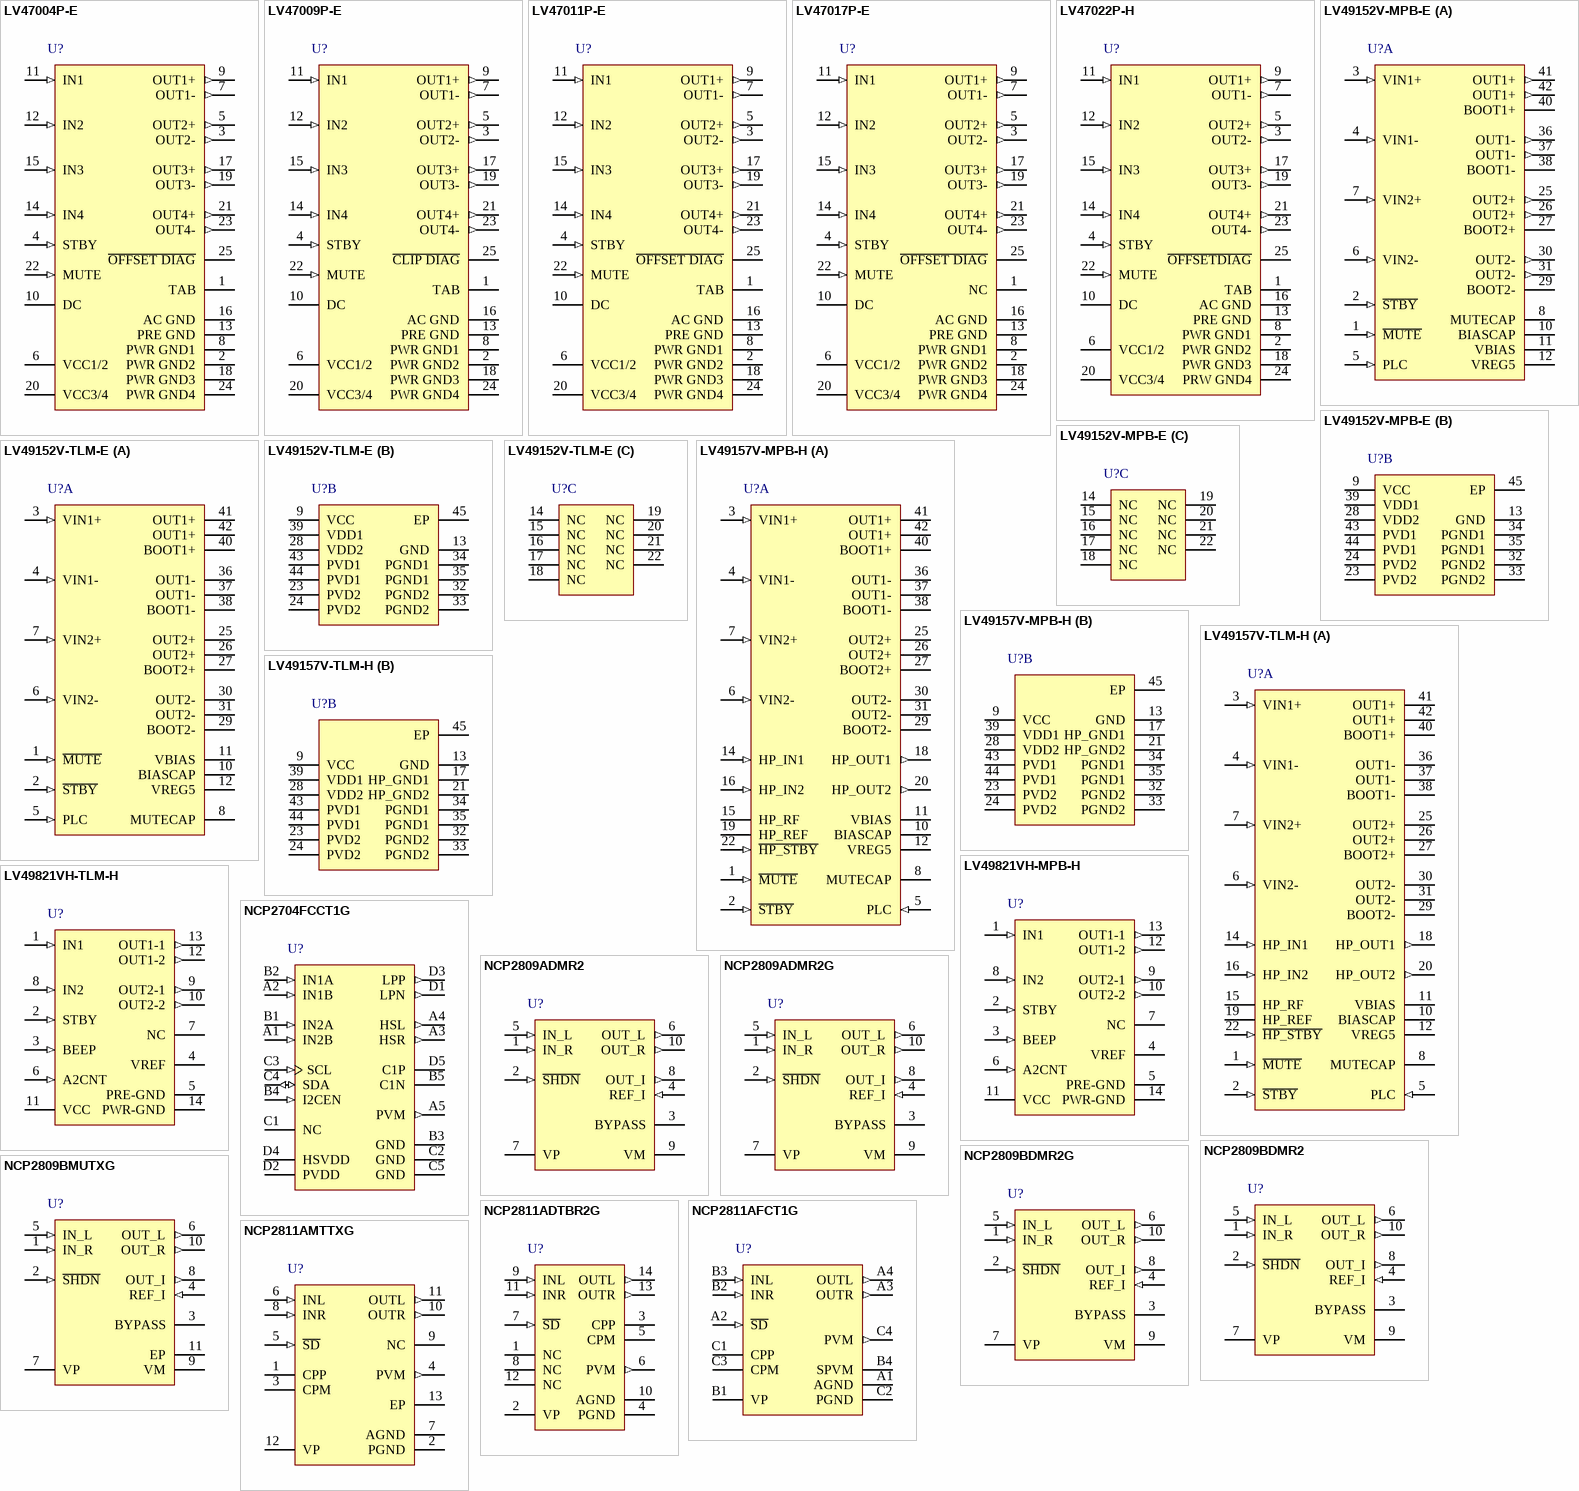
[diagram p1: symbols LV47004P-E to NCP2811AMTTXG]

## LV47004P-E
designator U?
4-Channel BTL Power Amplifier for Car Audio System, -40 to 85 degC, 25-Pin HZIP, Pb-Free, Fan-Fold; Manufacturer: On Semiconductor; PartNumber: LV47004P-E; DatasheetVersion: Rev. 2; PackageVersion: Rev. A, 10/2013; PackageReference: HZIP-25-945AD; PackageDescription: 25-Pin Zigzag-In Line Package, Body 29.1 x 4.55 mm, Pitch 1 mm; Supplier 1: Digi-Key; Supplier Part Number 1: LV47004P-E-ND; Supplier 2: Mouser; Supplier Part Number 2: 863-LV47004P-E; Packing: Fan-Fold; RoHS: TRUE; Mounting Technology: Through Hole; ComponentLink1Description: Manufacturer URL; ComponentLink1URL: http://www.onsemi.com/; ComponentLink2Description: Datasheet; ComponentLink2URL: http://www.onsemi.com/pub_link/Collateral/ENA1798-D.PDF; ComponentLink3Description: Package Specification; ComponentLink3URL: http://www.onsemi.com/pub_link/Collateral/945AD.PDF
footprint ONSC-HZIP-25-945AD (HZIP, 25-Leads, Body 29.2x4.5mm, Pitch 1mm)
pins: 1 TAB (power), 2 PWR GND2 (power), 3 OUT2- (out), 4 STBY (in), 5 OUT2+ (out), 6 VCC1/2 (power), 7 OUT1- (out), 8 PWR GND1 (power), 9 OUT1+ (out), 10 DC, 11 IN1 (in), 12 IN2 (in), 13 PRE GND (power), 14 IN4 (in), 15 IN3 (in), 16 AC GND (power), 17 OUT3+ (out), 18 PWR GND3 (power), 19 OUT3- (out), 20 VCC3/4 (power), 21 OUT4+ (out), 22 MUTE (in), 23 OUT4- (out), 24 PWR GND4 (power), 25 ~{OFFSET DIAG} (oc)

## LV47009P-E
designator U?
4-Channel BTL Power Amplifier for Car Audio System, -40 to 85 degC, 25-Pin HZIP, Pb-Free, Fan-Fold; Manufacturer: On Semiconductor; PartNumber: LV47009P-E; DatasheetVersion: Rev. 2; PackageVersion: Rev. A, 10/2013; PackageReference: HZIP-25-945AD; PackageDescription: 25-Pin Zigzag-In Line Package, Body 29.1 x 4.55 mm, Pitch 1 mm; Supplier 1: Digi-Key; Supplier Part Number 1: LV47009P-E-ND; Supplier 2: Mouser; Supplier Part Number 2: 863-LV47009P-E; Packing: Fan-Fold; RoHS: TRUE; Mounting Technology: Through Hole; ComponentLink1Description: Manufacturer URL; ComponentLink1URL: http://www.onsemi.com/; ComponentLink2Description: Datasheet; ComponentLink2URL: http://www.onsemi.com/pub_link/Collateral/ENA1959-D.PDF; ComponentLink3Description: Package Specification; ComponentLink3URL: http://www.onsemi.com/pub_link/Collateral/945AD.PDF
footprint ONSC-HZIP-25-945AD (HZIP, 25-Leads, Body 29.2x4.5mm, Pitch 1mm)
pins: 1 TAB (power), 2 PWR GND2 (power), 3 OUT2- (out), 4 STBY (in), 5 OUT2+ (out), 6 VCC1/2 (power), 7 OUT1- (out), 8 PWR GND1 (power), 9 OUT1+ (out), 10 DC, 11 IN1 (in), 12 IN2 (in), 13 PRE GND (power), 14 IN4 (in), 15 IN3 (in), 16 AC GND (power), 17 OUT3+ (out), 18 PWR GND3 (power), 19 OUT3- (out), 20 VCC3/4 (power), 21 OUT4+ (out), 22 MUTE (in), 23 OUT4- (out), 24 PWR GND4 (power), 25 ~{CLIP DIAG} (oc)

## LV47011P-E
designator U?
4-Channel BTL Power Amplifier for Car Audio System, -40 to 85 degC, 25-Pin HZIP, Pb-Free, Fan-Fold; Manufacturer: On Semiconductor; PartNumber: LV47011P-E; DatasheetVersion: Rev. 2; PackageVersion: Rev. A, 10/2013; PackageReference: HZIP-25-945AD; PackageDescription: 25-Pin Zigzag-In Line Package, Body 29.1 x 4.55 mm, Pitch 1 mm; Supplier 1: Digi-Key; Supplier Part Number 1: LV47011P-E-ND; Supplier 2: Newark; Supplier Part Number 2: 07W7028; Supplier 3: Mouser; Supplier Part Number 3: 863-LV47011P-E; Packing: Fan-Fold; RoHS: TRUE; Mounting Technology: Through Hole; ComponentLink1Description: Manufacturer URL; ComponentLink1URL: http://www.onsemi.com/; ComponentLink2Description: Datasheet; ComponentLink2URL: http://www.onsemi.com/pub_link/Collateral/ENA1838-D.PDF; ComponentLink3Description: Package Specification; ComponentLink3URL: http://www.onsemi.com/pub_link/Collateral/945AD.PDF
footprint ONSC-HZIP-25-945AD (HZIP, 25-Leads, Body 29.2x4.5mm, Pitch 1mm)
pins: 1 TAB (power), 2 PWR GND2 (power), 3 OUT2- (out), 4 STBY (in), 5 OUT2+ (out), 6 VCC1/2 (power), 7 OUT1- (out), 8 PWR GND1 (power), 9 OUT1+ (out), 10 DC, 11 IN1 (in), 12 IN2 (in), 13 PRE GND (power), 14 IN4 (in), 15 IN3 (in), 16 AC GND (power), 17 OUT3+ (out), 18 PWR GND3 (power), 19 OUT3- (out), 20 VCC3/4 (power), 21 OUT4+ (out), 22 MUTE (in), 23 OUT4- (out), 24 PWR GND4 (power), 25 ~{OFFSET DIAG} (oc)

## LV47017P-E
designator U?
4-Channel BTL Power Amplifier for Car Audio System, -40 to 85 degC, 25-Pin HZIP, Pb-Free, Fan-Fold; Manufacturer: On Semiconductor; PartNumber: LV47017P-E; DatasheetVersion: Rev. 2; PackageVersion: Rev. A, 10/2013; PackageReference: HZIP-25-945AD; PackageDescription: 25-Pin Zigzag-In Line Package, Body 29.1 x 4.55 mm, Pitch 1 mm; Supplier 1: Digi-Key; Supplier Part Number 1: LV47017P-EOS-ND; Supplier 2: Mouser; Supplier Part Number 2: 863-LV47017P-E; Packing: Fan-Fold; RoHS: TRUE; Mounting Technology: Through Hole; ComponentLink1Description: Manufacturer URL; ComponentLink1URL: http://www.onsemi.com/; ComponentLink2Description: Datasheet; ComponentLink2URL: http://www.onsemi.com/pub_link/Collateral/ENA1691-D.PDF; ComponentLink3Description: Package Specification; ComponentLink3URL: http://www.onsemi.com/pub_link/Collateral/945AD.PDF
footprint ONSC-HZIP-25-945AD (HZIP, 25-Leads, Body 29.2x4.5mm, Pitch 1mm)
pins: 1 NC, 2 PWR GND2 (power), 3 OUT2- (out), 4 STBY (in), 5 OUT2+ (out), 6 VCC1/2 (power), 7 OUT1- (out), 8 PWR GND1 (power), 9 OUT1+ (out), 10 DC, 11 IN1 (in), 12 IN2 (in), 13 PRE GND (power), 14 IN4 (in), 15 IN3 (in), 16 AC GND (power), 17 OUT3+ (out), 18 PWR GND3 (power), 19 OUT3- (out), 20 VCC3/4 (power), 21 OUT4+ (out), 22 MUTE (in), 23 OUT4- (out), 24 PWR GND4 (power), 25 ~{OFFSET DIAG} (oc)

## LV47022P-H
designator U?
4-Channel BTL Power Amplifier for Car Audio System, -40 to 85 degC, 25-Pin HZIP, Pb-Free, Fan-Fold; Manufacturer: On Semiconductor; PartNumber: LV47022P-H; DatasheetVersion: Rev. 0; PackageVersion: Rev. A, 10/2013; PackageReference: HZIP-25-945AD; PackageDescription: 25-Pin Zigzag-In Line Package, Body 29.1 x 4.55 mm, Pitch 1 mm; Supplier 1: Mouser; Supplier Part Number 1: 863-LV47022P-H; Packing: Fan-Fold; RoHS: TRUE; Mounting Technology: Through Hole; ComponentLink1Description: Manufacturer URL; ComponentLink1URL: http://www.onsemi.com/; ComponentLink2Description: Datasheet; ComponentLink2URL: http://www.onsemi.com/pub_link/Collateral/ENA2047-D.PDF; ComponentLink3Description: Package Specification; ComponentLink3URL: http://www.onsemi.com/pub_link/Collateral/945AD.PDF
footprint ONSC-HZIP-25-945AD (HZIP, 25-Leads, Body 29.2x4.5mm, Pitch 1mm)
pins: 1 TAB (power), 2 PWR GND2 (power), 3 OUT2- (out), 4 STBY (in), 5 OUT2+ (out), 6 VCC1/2 (power), 7 OUT1- (out), 8 PWR GND1 (power), 9 OUT1+ (out), 10 DC, 11 IN1 (in), 12 IN2 (in), 13 PRE GND (power), 14 IN4 (in), 15 IN3 (in), 16 AC GND (power), 17 OUT3+ (out), 18 PWR GND3 (power), 19 OUT3- (out), 20 VCC3/4 (power), 21 OUT4+ (out), 22 MUTE (in), 23 OUT4- (out), 24 PRW GND4 (power), 25 ~{OFFSETDIAG} (oc)

## LV49152V-MPB-E
designator U?
Class-D Audio Power Amplifier BTL 15 W x 2 ch, -25 to 75 degC, 44-Pin SSOP44J, Pb-Free, Fan-Fold; Manufacturer: On Semiconductor; PartNumber: LV49152V-MPB-E; Efficiency Typ (%): 93; DatasheetVersion: Rev. 0; PackageReference: SSOP44J-44; PackageDescription: 44-Pin Small Outline Package, Body 15 x 5.6 mm, Pitch 0.65 mm; Supplier 1: Digi-Key; Supplier Part Number 1: LV49152V-MPB-E-ND; Supplier 2: Newark; Supplier Part Number 2: 45W3289; Supplier 3: Mouser; Supplier Part Number 3: 863-LV49152V-MPB-E; Packing: Fan-Fold; RoHS: TRUE; Mounting Technology: Surface Mount; ComponentLink1Description: Manufacturer URL; ComponentLink1URL: http://www.onsemi.com/; ComponentLink2Description: Datasheet; ComponentLink2URL: http://www.onsemi.com/pub_link/Collateral/LV49152V-D.PDF; ComponentLink3Description: Package Specification; ComponentLink3URL: http://www.onsemi.com/pub_link/Collateral/ENA1963-D.PDF
footprint ONSC-SSOP44J-44_N (SOP, 44-Leads, Body 15x5.6mm, Pitch 0.65mm, Thermal Pad 7.8x3.6mm, IPC Medium Density)
footprint ONSC-SSOP44J-44_L (SOP, 44-Leads, Body 15x5.6mm, Pitch 0.65mm, Thermal Pad 7.8x3.6mm, IPC High Density)
footprint ONSC-SSOP44J-44_M (SOP, 44-Leads, Body 15x5.6mm, Pitch 0.65mm, Thermal Pad 7.8x3.6mm, IPC Low Density)
part A pins: 1 ~{MUTE} (in) "Mute control pin", 2 ~{STBY} (in) "Standby control pin", 3 VIN1+ (in) "Input pin, CH1 plus", 4 VIN1- (in) "Input pin, CH1 minus", 5 PLC (in) "Power level control pin", 6 VIN2- (in) "Input pin, CH2 minus", 7 VIN2+ (in) "Input pin, CH2 plus", 8 MUTECAP "Muting  system capcitor connection", 10 BIASCAP "Internal regulator decupling capacitor connection", 11 VBIAS "Internal regulator decupling capacitor connection", 12 VREG5 "Internal regulator decupling capacitor connection", 25 OUT2+ (out) "Output pin, CH2 plus", 26 OUT2+ (out) "Output pin, CH2 plus", 27 BOOT2+ "Boot strap pin, CH2 plus", 29 BOOT2- "Boot strap pin, CH2 minus", 30 OUT2- (out) "Output pin, CH2 minus", 31 OUT2- (out) "Output pin, CH2 minus", 36 OUT1- (out) "Output pin, CH1 minus", 37 OUT1- (out) "Output pin, CH1 minus", 38 BOOT1- "Boot strap pin, CH1 minus", 40 BOOT1+ "Boot strap pin, CH1 plus", 41 OUT1+ (out) "Output pin, CH1 plus", 42 OUT1+ (out) "Output pin, CH1 plus"
part B pins: 9 VCC (power) "Internal power supply decupling capacitor connection", 13 GND (power) "Analog Ground", 23 PVD2 (power) "CH2 power supply", 24 PVD2 (power) "CH2 power supply", 28 VDD2 (power) "CH2 internal regulator decupling capacitor connection", 32 PGND2 (power) "CH2 power Ground", 33 PGND2 (power) "CH2 power Ground", 34 PGND1 (power) "CH1 power Ground", 35 PGND1 (power) "CH1 power Ground", 39 VDD1 (power) "CH1 internal regulator decupling capacitor connection", 43 PVD1 (power) "CH1 power supply", 44 PVD1 (power) "CH1 power supply", 45 EP
part C pins: 14 NC "Non connection", 15 NC "Non connection", 16 NC "Non connection", 17 NC "Non connection", 18 NC "Non connection", 19 NC "Non connection", 20 NC "Non connection", 21 NC "Non connection", 22 NC "Non connection"

## LV49152V-TLM-E
designator U?
Class-D Audio Power Amplifier BTL 15 W x 2 ch, -25 to 75 degC, 44-Pin SSOP44J, Pb-Free, Tape and Reel; Manufacturer: On Semiconductor; PartNumber: LV49152V-TLM-E; Efficiency Typ (%): 93; DatasheetVersion: Rev. 0; PackageReference: SSOP44J-44; PackageDescription: 44-Pin Small Outline Package, Body 15 x 5.6 mm, Pitch 0.65 mm; Supplier 1: Digi-Key; Supplier Part Number 1: LV49152V-TLM-E-ND; Supplier 2: Mouser; Supplier Part Number 2: 863-LV49152V-TLM-E; Packing: Tape and Reel; RoHS: TRUE; Mounting Technology: Surface Mount; ComponentLink1Description: Manufacturer URL; ComponentLink1URL: http://www.onsemi.com/; ComponentLink2Description: Datasheet; ComponentLink2URL: http://www.onsemi.com/pub_link/Collateral/LV49152V-D.PDF; ComponentLink3Description: Package Specification; ComponentLink3URL: http://www.onsemi.com/pub_link/Collateral/ENA1963-D.PDF
footprint ONSC-SSOP44J-44_N (SOP, 44-Leads, Body 15x5.6mm, Pitch 0.65mm, Thermal Pad 7.8x3.6mm, IPC Medium Density)
footprint ONSC-SSOP44J-44_L (SOP, 44-Leads, Body 15x5.6mm, Pitch 0.65mm, Thermal Pad 7.8x3.6mm, IPC High Density)
footprint ONSC-SSOP44J-44_M (SOP, 44-Leads, Body 15x5.6mm, Pitch 0.65mm, Thermal Pad 7.8x3.6mm, IPC Low Density)
part A pins: 1 ~{MUTE} (in) "Mute control pin", 2 ~{STBY} (in) "Standby control pin", 3 VIN1+ (in) "Input pin, CH1 plus", 4 VIN1- (in) "Input pin, CH1 minus", 5 PLC (in) "Power level control pin", 6 VIN2- (in) "Input pin, CH2 minus", 7 VIN2+ (in) "Input pin, CH2 plus", 8 MUTECAP "Muteing system capacitor connection", 10 BIASCAP "Internal regulator decoupling capacitor connection", 11 VBIAS "Internal regulator decoupling capacitor connection", 12 VREG5 "Internal regulator decoupling capacitor connection", 25 OUT2+ "Output pin, CH2 plus", 26 OUT2+ "Output pin, CH2 plus", 27 BOOT2+ "Boot strap pin, CH2 plus", 29 BOOT2- "Boot strap pin, CH2 minus", 30 OUT2- "Output pin, CH2 minus", 31 OUT2- "Output pin, CH2 minus", 36 OUT1- "Output pin, CH1 minus", 37 OUT1- "Output pin, CH1 minus", 38 BOOT1- "Boot strap pin, CH1 minus", 40 BOOT1+ "Boot strap pin, CH1 plus", 41 OUT1+ "Output pin, CH1 plus", 42 OUT1+ "Output pin, CH1 plus"
part B pins: 9 VCC (power) "Internal power supply decoupling capacitor connection", 13 GND (power) "Analog Ground", 23 PVD2 (power) "CH2 power supply", 24 PVD2 (power) "CH2 power supply", 28 VDD2 (power) "CH2 internal regulator decoupling capacitor connection", 32 PGND2 (power) "CH2 power Ground", 33 PGND2 (power) "CH2 power Ground", 34 PGND1 (power) "CH1 power Ground", 35 PGND1 (power) "CH1 power Ground", 39 VDD1 (power) "CH1 internal regulator decoupling capacitor connection", 43 PVD1 (power) "CH1 power supply", 44 PVD1 (power) "CH1 power supply", 45 EP
part C pins: 14 NC "No  connection", 15 NC "No  connection", 16 NC "No  connection", 17 NC "No  connection", 18 NC "No  connection", 19 NC "No  connection", 20 NC "No  connection", 21 NC "No  connection", 22 NC "No  connection"

## LV49157V-MPB-H
designator U?
Class-D Audio Power Amplifier with Built-In Headphone Amplifier BTL 15 W x 2 ch, -25 to 75 degC, 44-Pin SSOP44J, Pb-Free, Fan-Fold; Manufacturer: On Semiconductor; PartNumber: LV49157V-MPB-H; Efficiency Typ (%): 93; DatasheetVersion: Rev. 0; PackageReference: SSOP44J-44; PackageDescription: 44-Pin Small Outline Package, Body 15 x 5.6 mm, Pitch 0.65 mm; Supplier 1: Digi-Key; Supplier Part Number 1: LV49157V-MPB-H-ND; Supplier 2: Newark; Supplier Part Number 2: 45W3290; Supplier 3: Mouser; Supplier Part Number 3: 863-LV49157V-MPB-H; Packing: Fan-Fold; RoHS: TRUE; Mounting Technology: Surface Mount; ComponentLink1Description: Manufacturer URL; ComponentLink1URL: http://www.onsemi.com/; ComponentLink2Description: Datasheet; ComponentLink2URL: http://www.onsemi.com/pub_link/Collateral/LV49157V-D.PDF; ComponentLink3Description: Package Specification; ComponentLink3URL: http://www.onsemi.com/pub_link/Collateral/ENA1963-D.PDF
footprint ONSC-SSOP44J-44_N (SOP, 44-Leads, Body 15x5.6mm, Pitch 0.65mm, Thermal Pad 7.8x3.6mm, IPC Medium Density)
footprint ONSC-SSOP44J-44_L (SOP, 44-Leads, Body 15x5.6mm, Pitch 0.65mm, Thermal Pad 7.8x3.6mm, IPC High Density)
footprint ONSC-SSOP44J-44_M (SOP, 44-Leads, Body 15x5.6mm, Pitch 0.65mm, Thermal Pad 7.8x3.6mm, IPC Low Density)
part A pins: 1 ~{MUTE} (in) "Mute control pin", 2 ~{STBY} (in) "Standby control pin", 3 VIN1+ (in) "Input pin, CH1 plus", 4 VIN1- (in) "Input pin, CH1 minus", 5 PLC (in) "Power level control pin", 6 VIN2- (in) "Input pin, CH2 minus", 7 VIN2+ (in) "Input pin, CH2 plus", 8 MUTECAP "Muteing system capacitor connection", 10 BIASCAP "Internal regulator decoupling capacitor connection", 11 VBIAS "Internal regulator decoupling capacitor connection", 12 VREG5 "Internal regulator decoupling capacitor connection", 14 HP_IN1 (in) "Headphone CH1 input", 15 HP_RF "Internal regulator decoupling capacitor connection", 16 HP_IN2 (in) "Headphone CH2 input", 18 HP_OUT1 (out) "Headphone CH1 output", 19 HP_REF "Internal regulator decoupling capacitor connection", 20 HP_OUT2 (out) "Headphone CH2 output", 22 ~{HP_STBY} (in) "Headphone Amplifier standby control pin", 25 OUT2+ "Output pin, CH2 plus", 26 OUT2+ "Output pin, CH2 plus", 27 BOOT2+ "Boot strap pin, CH2 plus", 29 BOOT2- "Boot strap pin, CH2 minus", 30 OUT2- "Output pin, CH2 minus", 31 OUT2- "Output pin, CH2 minus", 36 OUT1- "Output pin, CH1 minus", 37 OUT1- "Output pin, CH1 minus", 38 BOOT1- "Boot strap pin, CH1 minus", 40 BOOT1+ "Boot strap pin, CH1 plus", 41 OUT1+ "Output pin, CH1 plus", 42 OUT1+ "Output pin, CH1 plus"
part B pins: 9 VCC (power) "Internal power supply decoupling capacitor connection", 13 GND (power) "Analog Ground", 17 HP_GND1 (power) "Headphone Ground", 21 HP_GND2 (power) "Headphone CH2 Ground", 23 PVD2 (power) "CH2 power supply", 24 PVD2 (power) "CH2 power supply", 28 VDD2 (power) "CH2 internal regulator decoupling capacitor connection", 32 PGND2 (power) "CH2 power Ground", 33 PGND2 (power) "CH2 power Ground", 34 PGND1 (power) "CH1 power Ground", 35 PGND1 (power) "CH1 power Ground", 39 VDD1 (power) "CH1 internal regulator decoupling capacitor connection", 43 PVD1 (power) "CH1 power supply", 44 PVD1 (power) "CH1 power supply", 45 EP